# Altium integrated library Passives.IntLib: 55 symbols
Pins are listed as number, name and electrical type; pins without a type are passive.

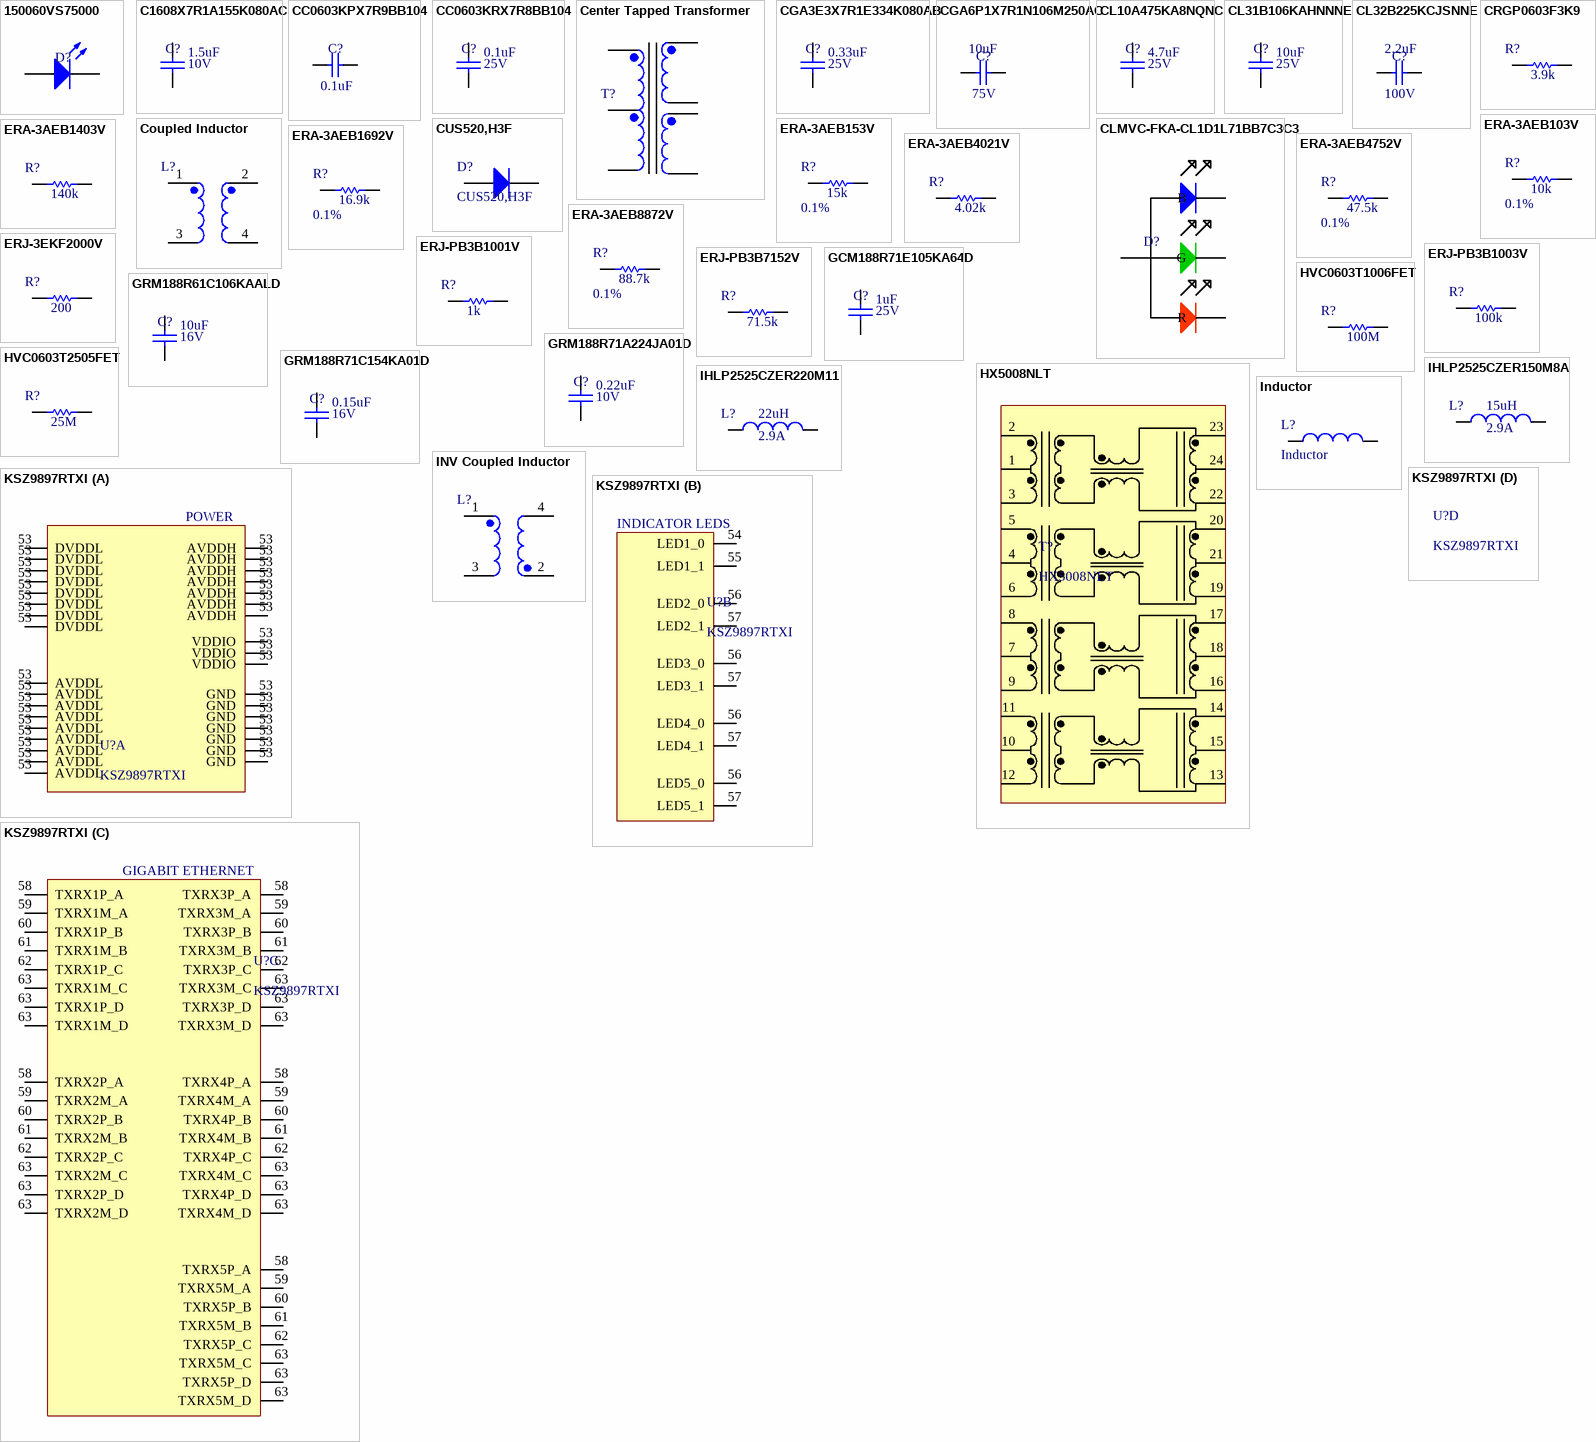
[diagram p0: symbols 150060VS75000 to KSZ9897RTXI]

## 150060VS75000
designator D?  (value not drawn)
LED GREEN CLEAR 0603 SMD; Manufacturer: Würth Elektronik; Part Number: 150060VS75000; Digikey Part Number: 732-4980-1-ND
footprint 0603_LED
pins: 1 K, 2 A

## C1608X7R1A155K080AC
designator C?  value 1.5uF  Voltage: 10V  (hidden comment: C1608X7R1A155K080AC)
CAP CER 1.5UF 10V X7R 0603; Manufacturer: TDK Corporation; Part Number: C1608X7R1A155K080AC; Digikey Part Number: 445-14233-1-ND
footprint 0603 SMP
pins: 1, 2

## CC0603KPX7R9BB104
designator C?, comment value 0.1uF  (hidden comment: Cap)
CAP CER 0.1UF 50V X7R 0603; Part Number: CC0603KPX7R9BB104; Manufacturer: Yageo; Digikey Part Number: 311-3567-1-ND
footprint 0603 SMP
pins: 1, 2

## CC0603KRX7R8BB104
designator C?  value 0.1uF  Voltage: 25V  (hidden comment: CC0603KRX7R8BB104)
CAP CER 0.1UF 25V X7R 0603; Manufacturer: Yageo; Part Number: CC0603KRX7R8BB104; Digikey Part Number: 311-1341-1-ND
footprint 0603 SMP
pins: 1, 2

## Center Tapped Transformer
designator T?  (value not drawn)
Manufacturer Part #: 750312558; Manufacturer: Wurth Electronics Midcom; Digikey Part #: 1297-1020-1-ND
footprint Center_Tapped_Transformer
pins: 1, 2, 3, 5, 6, 7, 8

## CGA3E3X7R1E334K080AB
designator C?  value 0.33uF  Voltage: 25V  (hidden comment: CGA3E3X7R1E334K080AB)
CAP CER 0.33UF 25V X7R 0603; Manufacturer: TDK Corporation; Part Number: CGA3E3X7R1E334K080AB; Digikey Part Number: 445-12544-1-ND
footprint 0603 SMP
pins: 1, 2

## CGA6P1X7R1N106M250AC
designator C?, comment value 10uF  Voltage: 75V  (hidden comment: Cap)
CAP CER 10UF 75V X7R 1210; Part Number: CGA6P1X7R1N106M250AC; Manufacturer: TDK Corporation; Digikey Part Number: 445-181609-1-ND
footprint 1210
pins: 1, 2

## CL10A475KA8NQNC
designator C?  value 4.7uF  Voltage: 25V  (hidden comment: CL10A475KA8NQNC)
CAP CER 4.7UF 25V X5R 0603; Manufacturer: Samsung Electro-Mechanics; Part Number: CL10A475KA8NQNC; Digikey Part Number: 1276-1900-1-ND
footprint 0603 SMP
pins: 1, 2

## CL31B106KAHNNNE
designator C?  value 10uF  Voltage: 25V  (hidden comment: CL31B106KAHNNNE)
CAP CER 10UF 25V X7R 1206; Manufacturer: Samsung Electro-Mechanics; Part Number: CL31B106KAHNNNE; Digikey Part Number: 1276-1804-1-ND
footprint 1206
pins: 1, 2

## CL32B225KCJSNNE
designator C?, comment value 2.2uF  Voltage: 100V  (hidden comment: Cap)
CAP CER 2.2UF 100V X7R 1210; Part Number: CL32B225KCJSNNE; Manufacturer: Samsung Electro-Mechanics; Digikey Part Number: 1276-3362-1-ND
footprint 1210
pins: 1, 2

## CLMVC-FKA-CL1D1L71BB7C3C3
designator D?  (value not drawn)
LED RGB CLEAR 4PLCC SMD; Manufacturer: Cree Inc.; Digikey Part Number: CLMVC-FKA-CL1D1L71BB7C3C3CT-ND; Part Number: CLMVC-FKA-CL1D1L71BB7C3C3
footprint PLCC-4
pins: 1 A, 2 B, 3 G, 4 R

## Coupled Inductor
designator L?  (value not drawn)
Manufacturer Part #: MSD1260-154KLD; Manufacturer: Coilcraft; Inductance: 150uH; Turns Ratio: 1:1; Max DC Current: 1.23A; Tolerance: 10%; Mouser Part #: 994-MSD1260-154KLD
footprint Coupled Inductor
pins: 1, 2, 3, 4

## CRGP0603F3K9
designator R?  value 3.9k  (hidden comment: CRGP0603F3K9)
RES SMD 3.9K OHM 1% 1/10W 0603; Manufacturer: TE Connectivity Passive Product; Part Number: CRGP0603F3K9; Digikey Part Number: A130423CT-ND
footprint 0603 SMP
pins: 1, 2

## CUS520,H3F
designator D?
DIODE SCHOTTKY 30V 200MA; Manufacturer: Toshiba Semiconductor and Storage; Part Number: CUS520,H3F; Digikey Part Number: CUS520H3FCT-ND
footprint SOD_323
pins: 1 K, 2 A

## ERA-3AEB103V
designator R?  value 10k  Tolerance: 0.1%  (hidden comment: ERA-3AEB103V)
RES SMD 10K OHM 0.1% 1/10W 0603; Manufacturer: Panasonic Electronic Components; Part Number: ERA-3AEB103V; Digikey Part Number: P10KDBCT-ND
footprint 0603 SMP
pins: 1, 2

## ERA-3AEB153V
designator R?  value 15k  Tolerance: 0.1%  (hidden comment: ERA-3AEB153V)
RES SMD 15K OHM 0.1% 1/10W 0603; Manufacturer: Panasonic Electronic Components; Part Number: ERA-3AEB153V; Digikey Part Number: P15KDBCT-ND
footprint 0603 SMP
pins: 1, 2

## ERA-3AEB1403V
designator R?  value 140k  (hidden comment: ERA-3AEB1403V)
RES SMD 140K OHM 0.1% 1/10W 0603; Manufacturer: Panasonic Electronic Components; Part Number: ERA-3AEB1403V; Digikey Part Number: P140KDBCT-ND; Tolerance: 0.1%
footprint 0603 SMP
pins: 1, 2

## ERA-3AEB1692V
designator R?  value 16.9k  Tolerance: 0.1%  (hidden comment: ERA-3AEB1692V)
RES SMD 16.9KOHM 0.1% 1/10W 0603; Manufacturer: Panasonic Electronic Components; Part Number: ERA-3AEB1692V; Digikey Part Number: P16.9KDBCT-ND
footprint 0603 SMP
pins: 1, 2

## ERA-3AEB4021V
designator R?  value 4.02k  (hidden comment: ERA-3AEB4021V)
RES SMD 4.02KOHM 0.1% 1/10W 0603; Manufacturer: Panasonic Electronic Components; Part Number: ERA-3AEB4021V; Digikey Part Number: P4.02KDBCT-ND
footprint 0603 SMP
pins: 1, 2

## ERA-3AEB4752V
designator R?  value 47.5k  Tolerance: 0.1%  (hidden comment: ERA-3AEB4752V)
RES SMD 47.5KOHM 0.1% 1/10W 0603; Manufacturer: Panasonic Electronic Components; Part Number: ERA-3AEB4752V; Digikey Part Number: P47.5KDBCT-ND
footprint 0603 SMP
pins: 1, 2

## ERA-3AEB8872V
designator R?  value 88.7k  Tolerance: 0.1%  (hidden comment: ERA-3AEB8872V)
RES SMD 88.7KOHM 0.1% 1/10W 0603; Manufacturer: Panasonic Electronic Components; Part Number: ERA-3AEB8872V; Digikey Part Number: P88.7KDBCT-ND
footprint 0603 SMP
pins: 1, 2

## ERJ-3EKF2000V
designator R?  value 200  (hidden comment: ERJ-3EKF2000V)
RES SMD 200 OHM 1% 1/10W 0603; Manufacturer: Panasonic Electronic Components; Part Number: ERJ-3EKF2000V; Digikey Part Number: P200HCT-ND
footprint 0603 SMP
pins: 1, 2

## ERJ-PB3B1001V
designator R?  value 1k  (hidden comment: ERJ-PB3B1001V)
RES SMD 1K OHM 0.1% 1/5W 0603; Manufacturer: Panasonic Electronic Components; Part Number: ERJ-PB3B1001V; Digikey Part Number: P19972CT-ND
footprint 0603 SMP
pins: 1, 2

## ERJ-PB3B1003V
designator R?  value 100k  (hidden comment: ERJ-PB3B1003V)
RES SMD 100K OHM 0.1% 1/5W 0603; Manufacturer: Panasonic Electronic Components; Part Number: ERJ-PB3B1003V; Digikey Part Number: P20200CT-ND
footprint 0603 SMP
pins: 1, 2

## ERJ-PB3B7152V
designator R?  value 71.5k  (hidden comment: ERJ-PB3B7152V)
RES SMD 71.5K OHM 0.1% 1/5W 0603; Manufacturer: Panasonic Electronic Components; Part Number: ERJ-PB3B7152V; Digikey Part Number: P20184CT-ND
footprint 0603 SMP
pins: 1, 2

## GCM188R71E105KA64D
designator C?  value 1uF  Voltage: 25V  (hidden comment: GCM188R71E105KA64D)
CAP CER 1UF 25V X7R 0603; Manufacturer: Murata Electronics; Part Number: GCM188R71E105KA64D; Digikey Part Number: 490-10673-1-ND
footprint 0603 SMP
pins: 1, 2

## GRM188R61C106KAALD
designator C?  value 10uF  Voltage: 16V  (hidden comment: GRM188R61C106KAALD)
CAP CER 10UF 16V X5R 0603; Manufacturer: Murata Electronics; Part Number: GRM188R61C106KAALD; Digikey Part Number: 490-10728-1-ND
footprint 0603 SMP
pins: 1, 2

## GRM188R71A224JA01D
designator C?  value 0.22uF  Voltage: 10V  (hidden comment: GRM188R71A224JA01D)
CAP CER 0.22UF 10V X7R 0603; Manufacturer: Murata Electronics; Part Number: GRM188R71A224JA01D; Digikey Part Number: 490-12539-1-ND
footprint 0603 SMP
pins: 1, 2

## GRM188R71C154KA01D
designator C?  value 0.15uF  Voltage: 16V  (hidden comment: GRM188R71C154KA01D)
CAP CER 0.15UF 16V X7R 0603; Manufacturer: Murata Electronics; Part Number: GRM188R71C154KA01D; Digikey Part Number: 490-3292-1-ND
footprint 0603 SMP
pins: 1, 2

## HVC0603T1006FET
designator R?  value 100M  (hidden comment: HVC0603T1006FET)
RES SMD 100M OHM 1% 1/10W 0603; Manufacturer: Ohmite; Part Number: HVC0603T1006FET; Digikey Part Number: HVC0603T1006FETCT-ND
footprint 0603 SMP
pins: 1, 2

## HVC0603T2505FET
designator R?  value 25M  (hidden comment: HVC0603T2505FET)
RES SMD 25M OHM 1% 1/10W 0603; Manufacturer: Ohmite; Part Number: HVC0603T2505FET; Digikey Part Number: HVC0603T2505FETCT-ND
footprint 0603 SMP
pins: 1, 2

## HX5008NLT
designator T?
TRANSFORMER MODULE GIGABIT 1PORT; Manufacturer: Pulse Electronics Network; Part Number: HX5008NLT; Digikey Part Number: 553-1761-1-ND
footprint HX5008NLT
pins: 1, 2, 3, 4, 5, 6, 7, 8, 9, 10, 11, 12, 13, 14, 15, 16, 17, 18, 19, 20, 21, 22, 23, 24

## IHLP2525CZER150M8A
designator L?  value 15uH  Saturation Current: 2.9A  (hidden comment: IHLP2525CZER150M8A)
FIXED IND 15UH 2.9A 127 MOHM SMD; Manufacturer: Vishay Dale; Part Number: IHLP2525CZER150M8A; Digikey Part Number: 541-2173-1-ND
footprint IHLP2525
pins: 1, 2

## IHLP2525CZER220M11
designator L?  value 22uH  Saturation Current: 2.9A  (hidden comment: IHLP2525CZER220M11)
FIXED IND 22UH 2.9A 135 MOHM SMD; Manufacturer: Vishay Dale; Part Number: IHLP2525CZER220M11; Digikey Part Number: 541-2578-1-ND
footprint IHLP2525
pins: 1, 2

## Inductor
designator L?
footprint Inductor SMT
pins: 1, 2

## INV Coupled Inductor
designator L?, comment Coupled Inductor  (value not drawn)
Manufacturer Part #: MSD1260-154KLD; Manufacturer: Coilcraft; Inductance: 150uH; Turns Ratio: 1:1; Max DC Current: 1.23A; Tolerance: 10%; Mouser Part #: 994-MSD1260-154KLD
footprint Coupled Inductor
pins: 1, 2, 3, 4

## KSZ9897RTXI
designator U?
IC ETHERNET SWITCH 7PORT 128TQFP; Manufacturer: Microchip Technology; Part Number: KSZ9897RTXI; Digikey Part Number: KSZ9897RTXI-ND
part A pins: 53 DVDDL, 53 DVDDL, 53 DVDDL, 53 DVDDL, 53 DVDDL, 53 DVDDL, 53 DVDDL, 53 DVDDL, 53 AVDDL, 53 AVDDL, 53 AVDDL, 53 AVDDL, 53 AVDDL, 53 AVDDL, 53 AVDDL, 53 AVDDL, 53 AVDDL, 53 AVDDH, 53 AVDDH, 53 AVDDH, 53 AVDDH, 53 AVDDH, 53 AVDDH, 53 AVDDH, 53 VDDIO, 53 VDDIO, 53 VDDIO, 53 GND, 53 GND, 53 GND, 53 GND, 53 GND, 53 GND, 53 GND
part B pins: 54 LED1_0, 55 LED1_1, 56 LED2_0, 56 LED3_0, 56 LED4_0, 56 LED5_0, 57 LED2_1, 57 LED3_1, 57 LED4_1, 57 LED5_1
part C pins: 58 TXRX3P_A, 58 TXRX4P_A, 58 TXRX5P_A, 58 TXRX1P_A, 58 TXRX2P_A, 59 TXRX3M_A, 59 TXRX4M_A, 59 TXRX5M_A, 59 TXRX1M_A, 59 TXRX2M_A, 60 TXRX3P_B, 60 TXRX4P_B, 60 TXRX5P_B, 60 TXRX1P_B, 60 TXRX2P_B, 61 TXRX3M_B, 61 TXRX4M_B, 61 TXRX5M_B, 61 TXRX1M_B, 61 TXRX2M_B, 62 TXRX3P_C, 62 TXRX4P_C, 62 TXRX5P_C, 62 TXRX1P_C, 62 TXRX2P_C, 63 TXRX3M_C, 63 TXRX3P_D, 63 TXRX3M_D, 63 TXRX4M_C, 63 TXRX4P_D, 63 TXRX4M_D, 63 TXRX5M_C, 63 TXRX5P_D, 63 TXRX5M_D, 63 TXRX1M_C, 63 TXRX1P_D, 63 TXRX1M_D, 63 TXRX2M_C, 63 TXRX2P_D, 63 TXRX2M_D
part A text: POWER
part B text: INDICATOR LEDS
part C text: GIGABIT ETHERNET

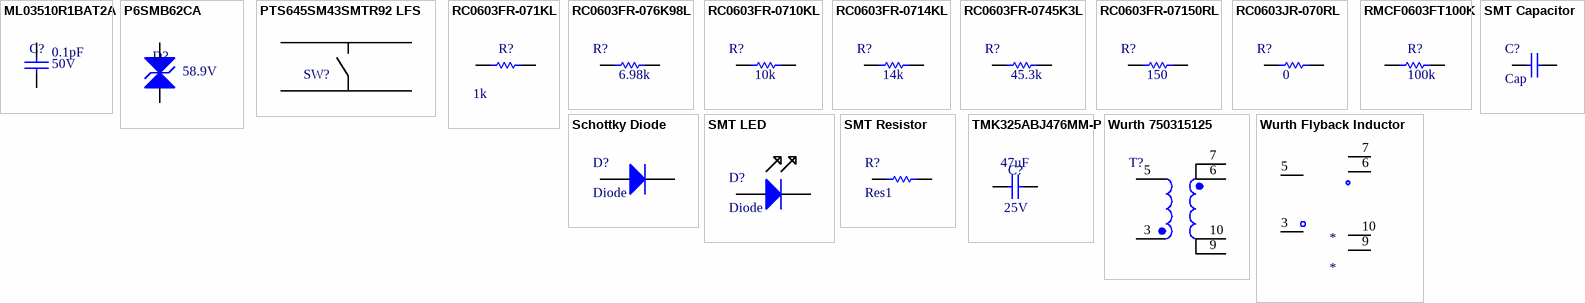
[diagram p1: symbols ML03510R1BAT2A to Wurth Flyback Inductor]

## ML03510R1BAT2A
designator C?  value 0.1pF  Voltage: 50V  (hidden comment: ML03510R1BAT2A)
CAP CER 0.1PF 50V C0G/NP0 0603; Manufacturer: AVX Corporation; Part Number: ML03510R1BAT2A; Digikey Part Number: 478-6698-1-ND
footprint 0603 SMP
pins: 1, 2

## P6SMB62CA
designator D?  Breakdown Voltage: 58.9V  (hidden comment: P6SMB62CA)
TVS DIODE 53V 85V DO214AA; Manufacturer: Bourns Inc.; Part Number: P6SMB62CA; Digikey Part Number: P6SMB62CABBCT-ND
footprint DO-214AA (SMB)
pins: 1 A, 2 C

## PTS645SM43SMTR92 LFS
designator SW?  (value not drawn)
SWITCH TACTILE SPST-NO 0.05A 12V; Manufacturer: C&K; Digikey Part Number: CKN9112CT-ND; Part Number: PTS645SM43SMTR92 LFS
footprint Push_button
pins: 1, 2, 3, 4

## RC0603FR-071KL
designator R?  value 1k  (hidden comment: RC0603FR-071KL)
RES SMD 1K OHM 1% 1/10W 0603; Manufacturer: Yageo; Part Number: RC0603FR-071KL; Digikey Part Number: 311-1.00KHRCT-ND
footprint 0603 SMP
pins: 1, 2

## RC0603FR-076K98L
designator R?  value 6.98k  (hidden comment: RC0603FR-076K98L)
RES SMD 6.98K OHM 1% 1/10W 0603; Manufacturer: Yageo; Part Number: RC0603FR-076K98L; Digikey Part Number: 311-6.98KHRCT-ND
footprint 0603 SMP
pins: 1, 2

## RC0603FR-0710KL
designator R?  value 10k  (hidden comment: RC0603FR-0710KL)
RES SMD 10K OHM 1% 1/10W 0603; Manufacturer: Yageo; Part Number: RC0603FR-0710KL; Digikey Part Number: 311-10.0KHRCT-ND
footprint 0603 SMP
pins: 1, 2

## RC0603FR-0714KL
designator R?  value 14k  (hidden comment: RC0603FR-0714KL)
RES SMD 14K OHM 1% 1/10W 0603; Manufacturer: Yageo; Part Number: RC0603FR-0714KL; Digikey Part Number: 311-14.0KHRCT-ND
footprint 0603 SMP
pins: 1, 2

## RC0603FR-0745K3L
designator R?  value 45.3k  (hidden comment: RC0603FR-0745K3L)
RES SMD 45.3K OHM 1% 1/10W 0603; Manufacturer: Yageo; Part Number: RC0603FR-0745K3L; Digikey Part Number: 311-45.3KHRCT-ND; Tolerance: 1%
footprint 0603 SMP
pins: 1, 2

## RC0603FR-07150RL
designator R?  value 150  (hidden comment: RC0603FR-07150RL)
RES SMD 150 OHM 1% 1/10W 0603; Manufacturer: Yageo; Part Number: RC0603FR-07150RL; Digikey Part Number: 311-150HRCT-ND
footprint 0603 SMP
pins: 1, 2

## RC0603JR-070RL
designator R?  value 0  (hidden comment: RC0603JR-070RL)
RES SMD 0 OHM JUMPER 1/10W 0603; Manufacturer: Yageo; Part Number: RC0603JR-070RL; Digikey Part Number: 311-0.0GRCT-ND
footprint 0603 SMP
pins: 1, 2

## RMCF0603FT100K
designator R?, comment value 100k  (hidden comment: Res1)
RES 100K OHM 1% 1/10W 0603; Part Number: RMCF0603FT100K; Manufacturer: Stackpole Electronics Inc; Digikey Part Number: RMCF0603FT100KCT-ND
footprint 0603 SMP
pins: 1, 2

## Schottky Diode
designator D?, comment Diode
footprint SOD_123F
footprint SMA Diode
footprint SOD128
footprint DO-214AA
footprint DPAK Diode
pins: 1 K, 2 A

## SMT Capacitor
designator C?, comment Cap
footprint 0603 SMP
footprint 0805
footprint 1206
footprint 1210
pins: 1, 2

## SMT LED
designator D?, comment Diode
footprint 0603_LED
footprint 0805_LED
footprint PLCC-2
pins: 1 K, 2 A

## SMT Resistor
designator R?, comment Res1
footprint 0805
footprint 1206
footprint 2515
footprint 0603 SMP
pins: 1, 2

## TMK325ABJ476MM-P
designator C?  value 47uF  Voltage: 25V  (hidden comment: TMK325ABJ476MM-P)
CAP CER 47UF 25V X5R 1210; Manufacturer: Taiyo Yuden; Part Number: TMK325ABJ476MM-P; Digikey Part Number: 587-5479-1-ND
footprint 1210
pins: 1, 2

## Wurth 750315125
designator T?, comment Flyback  (value not drawn)  (graphical)
Flyback Inductor
footprint Wurth 750315125
pins: 3, 5, 6, 7, 9, 10

## Wurth Flyback Inductor
designator *
footprint Wurth 750315125
pins: 3, 5, 6, 7, 9, 10